# EAGLE library part ADG736 (library m_ic-signal)
ADG736 CMOS Low Voltage 2.5 Ω Dual SPDT Switch Added 2016-02-21
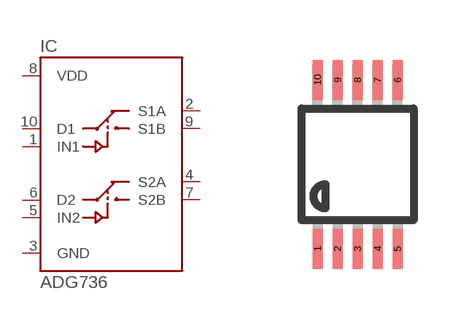
[diagram p10: symbol with the pads of MSOP10; footprint MSOP10]

Designator prefix IC

## ADG736 (MANUF: Analog Devices; PARTNUM: ADG736BRM)  [MSOP10]
1  IN1  pas
2  S1A  pas
3  GND  pas
4  S2A  pas
5  IN2  pas
6  D2  pas
7  S2B  pas
8  VDD  pas
9  S1B  pas
10  D1  pas

## Footprint MSOP10 (pad centres in mm)
10-Lead Mini Small Outline Package [MSOP] (RM-10) Source: http://www.analog.com/UploadedFiles/Data_Sheets/35641221898805SSM2167_b.pdf COMPLIANT TO JEDEC STANDARDS MO-187BA
smd 0.25 x 1: 1 -1,-2.113; 2 -0.5,-2.113; 3 0,-2.113; 4 0.5,-2.113; 5 1,-2.113; 6 1,2.113; 7 0.5,2.113; 8 0,2.113; 9 -0.5,2.113; 10 -1,2.113